# Altium footprint library SMD Resistors.PcbLib: 5 footprints
Each footprint in its own frame and in the unit in brackets; x right, y up, seen from the top. Pads: shape width x height; smd on the part's side, far side on the other; paste and mask are expansions set on the pad; w line width, h text height; cw(c..) or ccw(c..) is an arc to the next point about the centre after c.
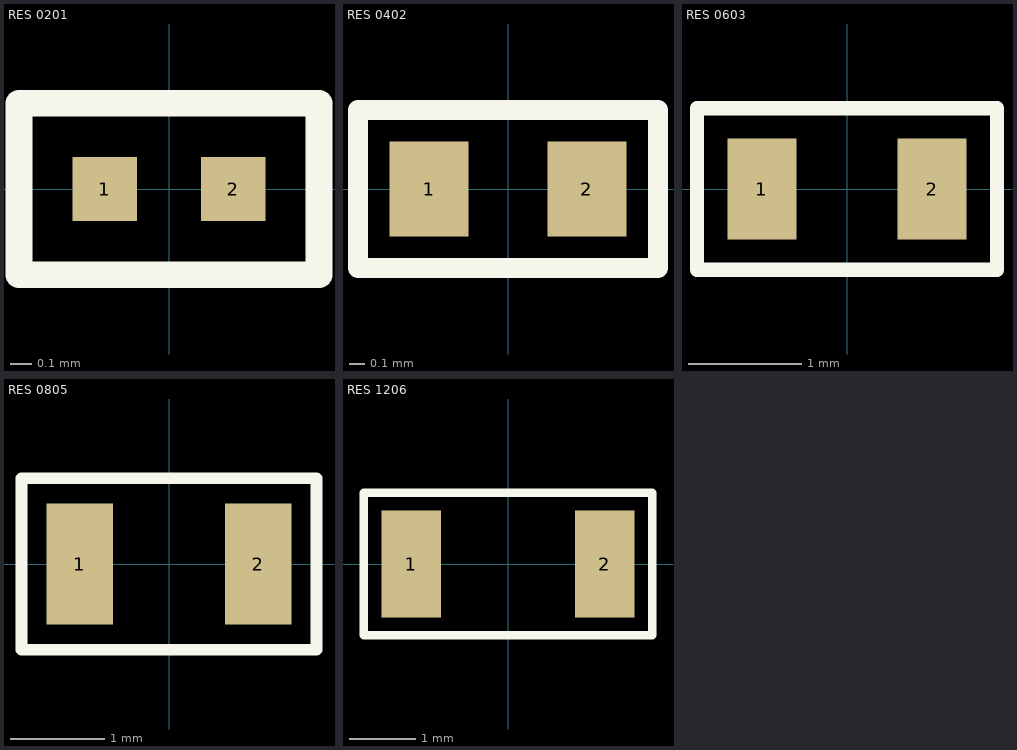
[diagram p0: the footprints below, top view; thin cyan lines are the x and y axes]

## RES 0201 [mil]
pads (2):
  rect 12x12 smd: 1(-12,0) 2(12,0)
Top Overlay:
  lines w5: -28,-16 28,-16 28,16 -28,16 -28,0 -28,-16

## RES 0402 [mil]
pads (2):
  rect 20x24 smd: 1(-20,0) 2(20,0)
Top Overlay:
  lines w5: -38,-20 -38,0 -38,20 38,20 38,-20 -38,-20

## RES 0603 [mil]
pads (2):
  rect 24x35 smd: 1(-29.5,0) 2(29.5,0)
Top Overlay:
  lines w5: -52,-28 -52,0 -52,28 52,28 52,-28 -52,-28

## RES 0805 [mil]
pads (2):
  rect 28x51 smd: 1(-37.5,0) 2(37.5,0)
Top Overlay:
  lines w5: -62,-36 62,-36 62,36 -62,36 -62,0 -62,-36

## RES 1206 [mil]
pads (2):
  rect 35x63 smd: 1(-57,0) 2(57,0)
Top Overlay:
  lines w5: -85,-42 85,-42 85,42 -85,42 -85,0 -85,-42